# Altium footprint library Trans_ON_Semi_MMBT4401LT3G_eec_MFG.PcbLib: 1 footprints
Each footprint in its own frame and in the unit in brackets; x right, y up, seen from the top. Pads: shape width x height; smd on the part's side, far side on the other; paste and mask are expansions set on the pad; w line width, h text height; cw(c..) or ccw(c..) is an arc to the next point about the centre after c.
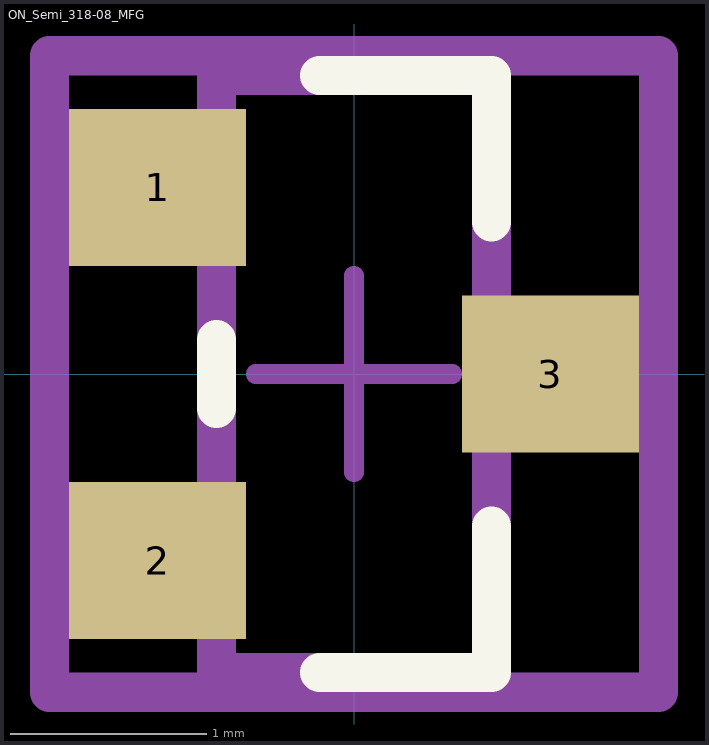
[diagram p0: the footprint, top view; thin cyan lines are the x and y axes]

## ON_Semi_318-08_MFG [mm]
pads (3):
  rect 0.9x0.8 smd paste+0 mask+0: 1(-1,0.95) 2(-1,-0.95) 3(1,0)
Top Overlay:
  lines w0.2: -0.7,-0.175 -0.7,0.175 ; -0.175,-1.52 0.7,-1.52 0.7,-0.775 ; -0.175,1.52 0.7,1.52 0.7,0.775
Mechanical 10:
  lines w0.2: -1.55,-1.62 1.55,-1.62 1.55,1.62 -1.55,1.62 -1.55,-1.62
  text ".Designator" at 0,0 h1
Mechanical 12:
  lines w0.2: -0.7,-1.52 0.7,-1.52 0.7,1.52 -0.7,1.52 -0.7,-1.52
Mechanical 15:
  lines w0.1: -0.5,0 0.5,0 ; 0,-0.5 0,0.5
  lines w0.2: -1.55,-1.62 1.55,-1.62 1.55,1.62 -1.55,1.62 -1.55,-1.62
3D body "Trans_ON_Semi_MMBT4401LT3G_eec.STEP": height 0.25, standoff 0, extent -1.55,-1.62 1.55,1.62